# Altium footprint library smartcar.PcbLib: 8 footprints
Each footprint in its own frame and in the unit in brackets; x right, y up, seen from the top. Pads: shape width x height; smd on the part's side, far side on the other; paste and mask are expansions set on the pad; w line width, h text height; cw(c..) or ccw(c..) is an arc to the next point about the centre after c.
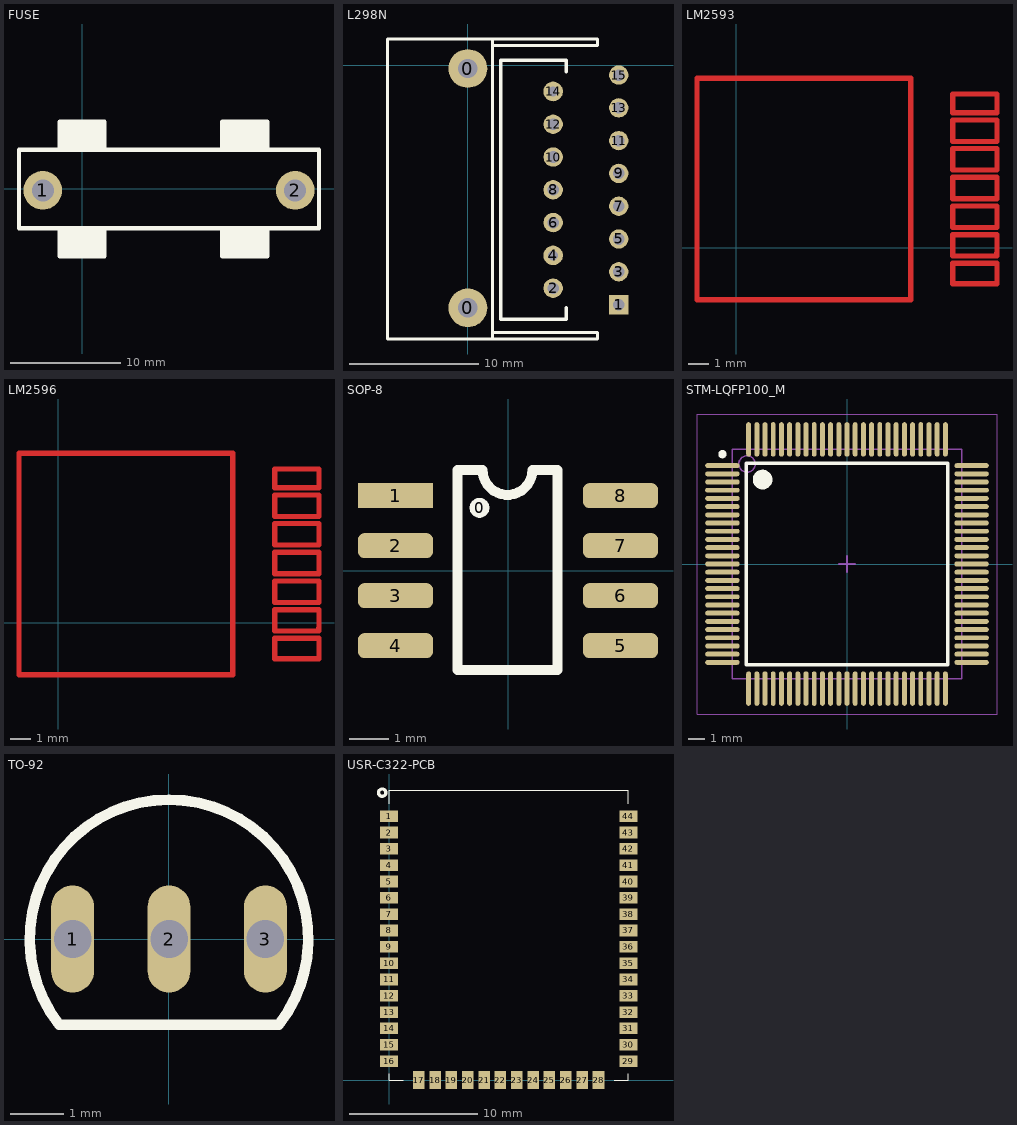
[diagram p0: the footprints below, top view; thin cyan lines are the x and y axes]

## FUSE [mm]
pads (2):
  round 3.5 hole 2: 1(-3.556,-0.127) 2(19.304,-0.127)
Top Overlay:
  rectangle: 12.7,-6.096 16.764,-3.556
  rectangle: -2.032,-6.096 2.032,-3.556
  rectangle: 12.7,3.556 16.764,6.096
  rectangle: -2.032,3.556 2.032,6.096
  lines w0.4: -2.032,-3.556 -2.032,-6.096 2.032,-6.096 2.032,-3.556 ; -2.032,3.556 -2.032,6.096 2.032,6.096 2.032,3.556 ; 12.7,-3.556 12.7,-6.096 16.764,-6.096 16.764,-3.556 ; 12.7,3.556 12.7,6.096 16.764,6.096 16.764,4.064 16.764,3.556 ; -5.715,-3.556 21.463,-3.556 21.463,3.556 -5.715,3.556 -5.715,-3.556
3D body "User Library-Fuse_Holder.STEP": height 13.51, standoff -5.34, extent -3.781,-4.754 19.379,4.246

## L298N [mm]
pads (17):
  round 3 hole 1.5: 0(0,-18.796) 0(0,-0.254)
  rect 1.5x1.5 hole 0.9: 1(11.684,-18.542)
  round 1.5 hole 0.9: 2(6.604,-17.272) 3(11.684,-16.002) 5(11.684,-13.462) 6(6.604,-12.192) 7(11.684,-10.922) 8(6.604,-9.652) 9(11.684,-8.382) 10(6.604,-7.112) 11(11.684,-5.842) 12(6.604,-4.572) 13(11.684,-3.302) 15(11.684,-0.762)
  round 1.524 hole 0.762: 4(6.604,-14.732) 14(6.604,-2.032)
Top Overlay:
  lines w0.254: 1.905,-20.701 10.033,-20.701 10.033,-21.209 1.905,-21.209 ; 1.905,1.524 10.033,1.524 10.033,2.032 9.779,2.032 1.905,2.032 ; 7.62,-18.796 7.62,-19.685 4.953,-19.685 2.54,-19.685 2.54,0.381 4.953,0.381 7.62,0.381 7.62,-0.508 ; 1.905,-21.209 -6.223,-21.209 -6.223,2.032 1.905,2.032 ; 1.905,-21.209 1.905,-20.066 1.905,-19.05 1.905,2.032

## LM2593 [mm]
Top Layer:
  lines w0.254: -1.905,8.255 8.509,8.255 ; -1.905,8.26 -1.905,-2.54 8.495,-2.54 ; 8.509,-2.54 8.509,8.26 ; 10.549,-1.767 10.549,-0.841 ; 10.549,-0.753 12.709,-0.753 12.709,-1.76 10.558,-1.76 ; 10.549,-0.379 10.549,0.547 ; 10.549,0.635 11.089,0.635 12.169,0.635 12.709,0.635 12.709,-0.254 12.7,-0.254 12.7,-0.403 10.558,-0.403 ; 10.549,2.415 10.549,3.341 ; 10.549,3.429 12.709,3.429 12.709,2.422 ; 10.549,3.812 10.549,4.738 ; 10.549,4.826 12.709,4.826 12.709,3.819 ; 10.549,5.207 10.549,6.135 ; 10.549,6.223 12.709,6.223 12.709,5.216 ; 10.558,2.382 12.709,2.382 ; 10.558,3.779 12.709,3.779 ; 10.558,5.176 12.709,5.176 ; 12.709,0.985 10.558,0.985 10.558,2.015 10.541,2.032 12.709,2.032 12.709,1.025 ; 10.558,6.573 10.558,7.493 12.709,7.493 12.709,6.573 10.558,6.573

## LM2596 [mm]
Top Layer:
  lines w0.254: -1.905,8.255 8.509,8.255 ; -1.905,8.26 -1.905,-2.54 8.495,-2.54 ; 8.509,-2.54 8.509,8.26 ; 10.549,-1.767 10.549,-0.841 ; 10.549,-0.753 12.709,-0.753 12.709,-1.76 10.558,-1.76 ; 10.549,-0.379 10.549,0.547 ; 10.549,0.635 11.089,0.635 12.169,0.635 12.709,0.635 12.709,-0.254 12.7,-0.254 12.7,-0.403 10.558,-0.403 ; 10.549,2.415 10.549,3.341 ; 10.549,3.429 12.709,3.429 12.709,2.422 ; 10.549,3.812 10.549,4.738 ; 10.549,4.826 12.709,4.826 12.709,3.819 ; 10.549,5.207 10.549,6.135 ; 10.549,6.223 12.709,6.223 12.709,5.216 ; 10.558,2.382 12.709,2.382 ; 10.558,3.779 12.709,3.779 ; 10.558,5.176 12.709,5.176 ; 12.709,0.985 10.558,0.985 10.558,2.015 10.541,2.032 12.709,2.032 12.709,1.025 ; 10.558,6.573 10.558,7.493 12.709,7.493 12.709,6.573 10.558,6.573

## SOP-8 [mil] "LM393"
pads (9):
  round 20 on Top Overlay: 0(-28.5,62.8)
  rect 75x25 smd: 1(-112.5,75)
  rrect50% 75x25 smd: 2(-112.5,25) 3(-112.5,-25) 4(-112.5,-75) 5(112.5,-75) 6(112.5,-25) 7(112.5,25) 8(112.5,75)
Top Overlay:
  lines w10: -28.5,100.8 -50.5,100.8 -50.5,-99.2 49.5,-99.2 49.5,100.8 24.5,100.8 cw(c-0.5,100.8) -25.5,100.8
3D body "User Library-SOIC-8-1.step": height 68.9, standoff 0, extent -118.1,-96.46 118.12,96.46

## STM-LQFP100_M [mm] "Thin QFP, 100-Leads, Body 14x14mm, Pitch 0.5mm, IPC Low Density"
height 1.6
pads (100):
  oval 2.1x0.3 smd: 1(-7.6,6) 2(-7.6,5.5) 3(-7.6,5) 4(-7.6,4.5) 5(-7.6,4) 6(-7.6,3.5) 7(-7.6,3) 8(-7.6,2.5) 9(-7.6,2) 10(-7.6,1.5) 11(-7.6,1) 12(-7.6,0.5) 13(-7.6,0) 14(-7.6,-0.5) 15(-7.6,-1) 16(-7.6,-1.5) 17(-7.6,-2) 18(-7.6,-2.5) 19(-7.6,-3) 20(-7.6,-3.5) 21(-7.6,-4) 22(-7.6,-4.5) 23(-7.6,-5) 24(-7.6,-5.5) 25(-7.6,-6) 51(7.6,-6) 52(7.6,-5.5) 53(7.6,-5) 54(7.6,-4.5) 55(7.6,-4) 56(7.6,-3.5) 57(7.6,-3) 58(7.6,-2.5) 59(7.6,-2) 60(7.6,-1.5) 61(7.6,-1) 62(7.6,-0.5) 63(7.6,0) 64(7.6,0.5) 65(7.6,1) 66(7.6,1.5) 67(7.6,2) 68(7.6,2.5) 69(7.6,3) 70(7.6,3.5) 71(7.6,4) 72(7.6,4.5) 73(7.6,5) 74(7.6,5.5) 75(7.6,6)
  oval 0.3x2.1 smd: 26(-6,-7.6) 27(-5.5,-7.6) 28(-5,-7.6) 29(-4.5,-7.6) 30(-4,-7.6) 31(-3.5,-7.6) 32(-3,-7.6) 33(-2.5,-7.6) 34(-2,-7.6) 35(-1.5,-7.6) 36(-1,-7.6) 37(-0.5,-7.6) 38(0,-7.6) 39(0.5,-7.6) 40(1,-7.6) 41(1.5,-7.6) 42(2,-7.6) 43(2.5,-7.6) 44(3,-7.6) 45(3.5,-7.6) 46(4,-7.6) 47(4.5,-7.6) 48(5,-7.6) 49(5.5,-7.6) 50(6,-7.6) 76(6,7.6) 77(5.5,7.6) 78(5,7.6) 79(4.5,7.6) 80(4,7.6) 81(3.5,7.6) 82(3,7.6) 83(2.5,7.6) 84(2,7.6) 85(1.5,7.6) 86(1,7.6) 87(0.5,7.6) 88(0,7.6) 89(-0.5,7.6) 90(-1,7.6) 91(-1.5,7.6) 92(-2,7.6) 93(-2.5,7.6) 94(-3,7.6) 95(-3.5,7.6) 96(-4,7.6) 97(-4.5,7.6) 98(-5,7.6) 99(-5.5,7.6) 100(-6,7.6)
Top Overlay:
  circle w0.6: c-5.15,5.15 r0.3
  circle w0.25: c-7.6,6.7 r0.125
  lines w0.2: -6.15,-6.15 6.15,-6.15 6.15,6.15 -6.15,6.15 -6.15,-6.15
Mechanical 13:
  circle w0.1: c-6.1,6.1 r0.5
  lines w0.1: -7,-7 7,-7 7,7 -7,7 -7,-7
Mechanical 15:
  lines w0.05: -9.15,-9.15 9.15,-9.15 9.15,9.15 -9.15,9.15 -9.15,-9.15
  lines w0.1: -0.5,0 0.5,0 ; 0,-0.5 0,0.5
3D body: height 1.6, standoff 0.05, extent -7,-7 7,7

## TO-92 [mm] "S8050"
pads (3):
  oval 0.8x2 hole 0.7: 1(-1.8,0) 2(0,0) 3(1.8,0)
Top Overlay:
  lines w0.2: -2.049,-1.601 cw(c0,0) 2.049,-1.601 ; -1.99,-1.6 1.99,-1.6
3D body: height 3, standoff 0, extent -2.04,-0.25 -1.6,0.25
3D body: height 3, standoff 0, extent -0.22,-0.25 0.22,0.25
3D body: height 3, standoff 0, extent 1.583,-0.254 2.023,0.246
3D body: height 8, standoff 3, extent -2.59,-1.65 2.59,2.6

## USR-C322-PCB [mm] "USR-BLE100串口蓝牙模块"
pads (44):
  rect 1.4x0.9 smd: 1(0,20.52) 2(0,19.25) 3(0,17.98) 4(0,16.71) 5(0,15.44) 6(0,14.17) 7(0,12.9) 8(0,11.63) 9(0,10.36) 10(0,9.09) 11(0,7.82) 12(0,6.55) 13(0,5.28) 14(0,4.01) 15(0,2.74) 16(0,1.47) 29(18.62,1.47) 30(18.62,2.74) 31(18.62,4.01) 32(18.62,5.28) 33(18.62,6.55) 34(18.62,7.82) 35(18.62,9.09) 36(18.62,10.36) 37(18.62,11.63) 38(18.62,12.9) 39(18.62,14.17) 40(18.62,15.44) 41(18.62,16.71) 42(18.62,17.98) 43(18.62,19.25) 44(18.62,20.52)
  rect 0.9x1.4 smd: 17(2.31,0) 18(3.58,0) 19(4.85,0) 20(6.12,0) 21(7.39,0) 22(8.66,0) 23(9.93,0) 24(11.2,0) 25(12.47,0) 26(13.74,0) 27(15.02,0) 28(16.29,0)
Top Overlay:
  circle w0.254: c-0.538,22.352 r0.284
  lines w0.07: 0,0.5 0,0 1.12,0 ; 0,21.5 0,22.55 18.62,22.55 18.62,21.5 ; 17.5,0 18.62,0 18.62,0.5